# Altium schematic symbol library SCH - POWER - SWITCHMODE - TI TPS51397ARJE.SchLib: 1 symbol
Pins are listed as number, name and electrical type; pins without a type are passive.

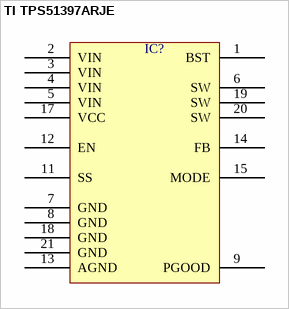
[diagram p0: symbol TI TPS51397ARJE]

## TI TPS51397ARJE
designator IC?  (value not drawn)
pins: 1 BST, 2 VIN, 3 VIN, 4 VIN, 5 VIN, 6 SW, 7 GND, 8 GND, 9 PGOOD, 11 SS, 12 EN, 13 AGND, 14 FB, 15 MODE, 17 VCC, 18 GND, 19 SW, 20 SW, 21 GND